# Altium integrated library RC0402JR-0712KL.IntLib: 1 symbol
Pins are listed as number, name and electrical type; pins without a type are passive.

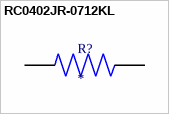
[diagram p0: symbol RC0402JR-0712KL]

## RC0402JR-0712KL
designator R?
12 kOhms Â±5% 0.063W, 1/16W Chip Resistor 0402 (1005 Metric) Thick Film; MF: Yageo; MP: RC0402JR-0712KL; Value: *; Purchase-URL: https://pricing.snapeda.com/search/part/RC0402JR-0712KL/?ref=eda; SnapEDA_Link: https://www.snapeda.com/parts/RC0402JR-0712KL/Yageo/view-part/105935/?ref=snap; Check_prices: https://www.snapeda.com/parts/RC0402JR-0712KL/Yageo/view-part/105935/?ref=eda; Package: 1005 Panasonic Electronic Components; Digi-Key_Part_Number: 311-12KJRCT-ND
footprint RESC1005X40N
pins: 1, 2